# EAGLE library part FH34SRJ-6S-0.5SH(50) (library Hermes_lib)
FFC 6-pin 0.5mm Pitch, 1.0mm above the board Top and Top/Bottom Contact, Back-Flip Actuator Flexible Printed Circuit & Flexible Flat Cable ZIF Connectors Datasheet <http://www.mouser.com/ds/2/185/FH34SRJ_catalog-939325.pdf> Mouser <http://www.mouser.com/ProductDetail/Hirose-Connector/FH34SRJ-6S-05SH50/?qs=sGAEpiMZZMs7i6cT6ogu444Vyyn5WrkCJpwT3BpjKx4%3d>
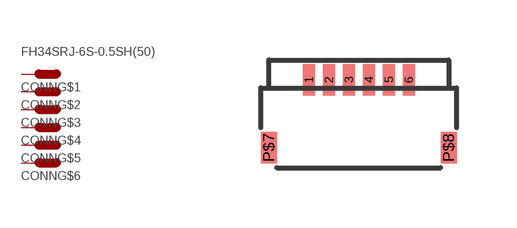
[diagram p3: symbol with the pads of FH34SRJ-6S-0.5SH(50); footprint FH34SRJ-6S-0.5SH(50)]

Designator prefix CONN; gates G$1=PIN-NAME G$2=PIN G$3=PIN G$4=PIN G$5=PIN G$6=PIN

## FH34SRJ-6S-0.5SH(50)  [FH34SRJ-6S-0.5SH(50)]
1  G$1:P$1  pas
2  G$2:P$1
3  G$3:P$1
4  G$4:P$1
5  G$5:P$1
6  G$6:P$1

## Footprint FH34SRJ-6S-0.5SH(50) (pad centres in mm)
smd 0.305 x 0.787: 1 -1.25,1.2; 2 -0.75,1.2; 3 -0.25,1.2; 4 0.25,1.2; 5 0.75,1.2; 6 1.25,1.2
smd 0.406 x 0.787: P$7 -2.25,-0.5; P$8 2.25,-0.5